# Altium schematic symbol library InertialSense.SchLib: 6 symbols
Pins are listed as number, name and electrical type; pins without a type are passive.

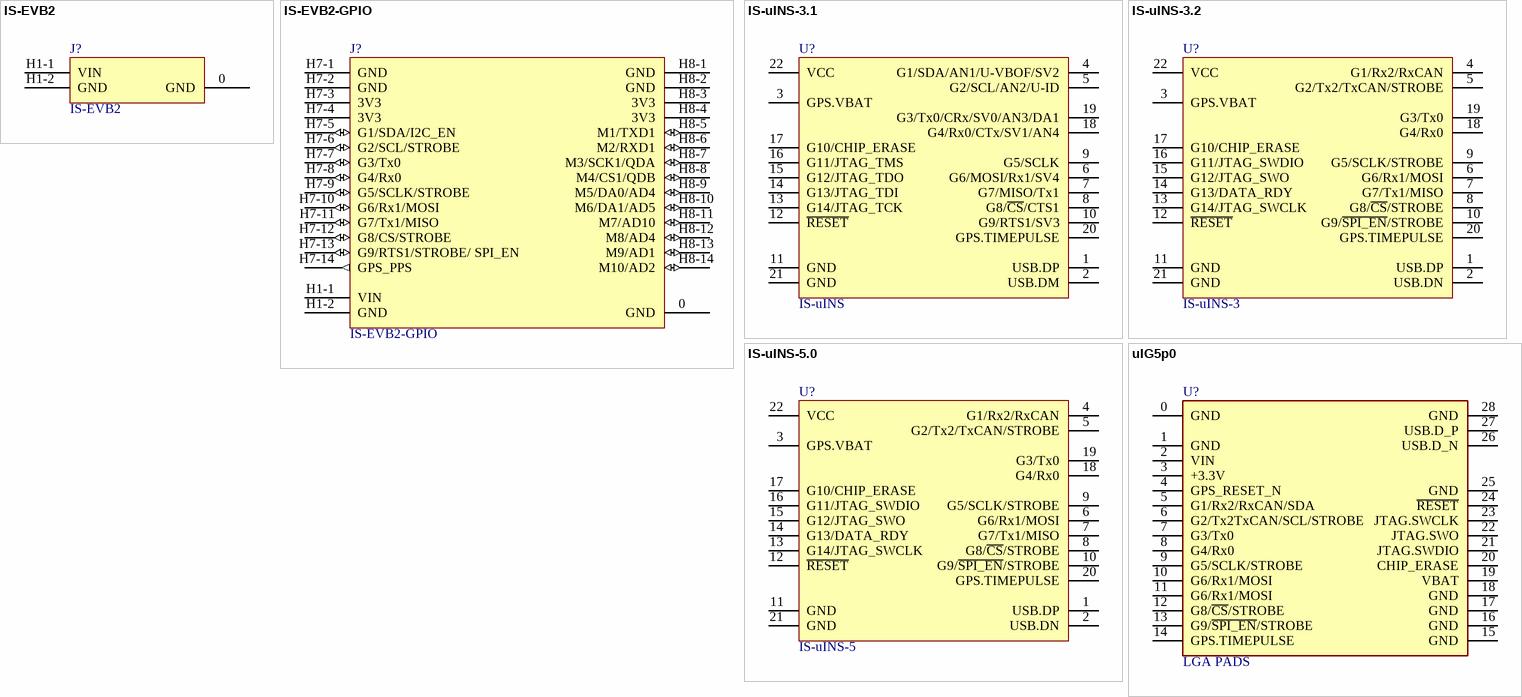
[diagram p0: symbols IS-EVB2 to uIG5p0]

## IS-EVB2
designator J?
Inertial Sense EVB 2.x
footprint EVB-2_1 (EVB 2 Footprint)
pins: 0 GND (power), H1-1 VIN (power), H1-2 GND (power)

## IS-EVB2-GPIO
designator J?
Inertial Sense EVB 2.x with GPIO connections
footprint EVB-2_1-GPIO (EVB 2.0 Footprint with GPIO headers)
pins: 0 GND (power), H1-1 VIN (power), H1-2 GND (power), H7-1 GND (power), H7-2 GND (power), H7-3 3V3 (power), H7-4 3V3 (power), H7-5 G1/SDA/I2C_EN (io), H7-6 G2/SCL/STROBE (io), H7-7 G3/Tx0 (io), H7-8 G4/Rx0 (io), H7-9 G5/SCLK/STROBE (io), H7-10 G6/Rx1/MOSI (io), H7-11 G7/Tx1/MISO (io), H7-12 G8/CS/STROBE (io), H7-13 G9/RTS1/STROBE/ SPI_EN (io), H7-14 GPS_PPS (out), H8-1 GND (power), H8-2 GND (power), H8-3 3V3 (power), H8-4 3V3 (power), H8-5 M1/TXD1 (io), H8-6 M2/RXD1 (io), H8-7 M3/SCK1/QDA (io), H8-8 M4/CS1/QDB (io), H8-9 M5/DA0/AD4 (io), H8-10 M6/DA1/AD5 (io), H8-11 M7/AD10 (io), H8-12 M8/AD4 (io), H8-13 M9/AD1 (io), H8-14 M10/AD2 (io)

## IS-uINS-3.1
designator U?, comment Manufacturer Part Number: IS-uINS  (hidden comment: uINS)
Inertial Sense uINS; Manufacturer: Inertial Sense
footprint IS-uINS-3.2_no_paste (Inerial Sense uINS r3.2, 22pins 1.27mm pitch)
pins: 1 USB.DP, 2 USB.DM, 3 GPS.VBAT, 4 G1/SDA/AN1/U-VBOF/SV2, 5 G2/SCL/AN2/U-ID, 6 G6/MOSI/Rx1/SV4, 7 G7/MISO/Tx1, 8 G8/~{CS}/CTS1, 9 G5/SCLK, 10 G9/RTS1/SV3, 11 GND (power), 12 ~{RESET}, 13 G14/JTAG_TCK, 14 G13/JTAG_TDI, 15 G12/JTAG_TDO, 16 G11/JTAG_TMS, 17 G10/CHIP_ERASE, 18 G4/Rx0/CTx/SV1/AN4, 19 G3/Tx0/CRx/SV0/AN3/DA1, 20 GPS.TIMEPULSE, 21 GND (power), 22 VCC (power)

## IS-uINS-3.2
designator U?, comment Manufacturer Part Number: IS-uINS-3  (hidden comment: uINS)
Inertial Sense uINS; Manufacturer: Inertial Sense; Supplier 1: Inertial Sense; Supplier Part Number 1: IS-uINS-3
footprint IS-uINS-3.2_no_paste (Inerial Sense uINS r3.2, 22pins 1.27mm pitch)
pins: 1 USB.DP, 2 USB.DN, 3 GPS.VBAT, 4 G1/Rx2/RxCAN, 5 G2/Tx2/TxCAN/STROBE, 6 G6/Rx1/MOSI, 7 G7/Tx1/MISO, 8 G8/~{CS}/STROBE, 9 G5/SCLK/STROBE, 10 G9/~{SPI_EN}/STROBE, 11 GND (power), 12 ~{RESET}, 13 G14/JTAG_SWCLK, 14 G13/DATA_RDY, 15 G12/JTAG_SWO, 16 G11/JTAG_SWDIO, 17 G10/CHIP_ERASE, 18 G4/Rx0, 19 G3/Tx0, 20 GPS.TIMEPULSE, 21 GND (power), 22 VCC (power)

## IS-uINS-5.0
designator U?, comment Manufacturer Part Number: IS-uINS-5  (hidden comment: uINS)
Inertial Sense uINS; Manufacturer: Inertial Sense; Supplier 1: Inertial Sense; Supplier Part Number 1: IS-uINS-5
footprint IS-uINS-5.0 (Inerial Sense uINS r5.0, 22pins 1.27mm pitch)
pins: 1 USB.DP, 2 USB.DN, 3 GPS.VBAT, 4 G1/Rx2/RxCAN, 5 G2/Tx2/TxCAN/STROBE, 6 G6/Rx1/MOSI, 7 G7/Tx1/MISO, 8 G8/~{CS}/STROBE, 9 G5/SCLK/STROBE, 10 G9/~{SPI_EN}/STROBE, 11 GND (power), 12 ~{RESET}, 13 G14/JTAG_SWCLK, 14 G13/DATA_RDY, 15 G12/JTAG_SWO, 16 G11/JTAG_SWDIO, 17 G10/CHIP_ERASE, 18 G4/Rx0, 19 G3/Tx0, 20 GPS.TIMEPULSE, 21 GND (power), 22 VCC (power)

## uIG5p0
designator U?, comment LGA PADS
Inertial Sense uIG5 GNSS INS Module
footprint uIG5p1_LGA
pins: 0 GND, 1 GND, 2 VIN, 3 +3.3V, 4 GPS_RESET_N, 5 G1/Rx2/RxCAN/SDA, 6 G2/Tx2TxCAN/SCL/STROBE, 7 G3/Tx0, 8 G4/Rx0, 9 G5/SCLK/STROBE, 10 G6/Rx1/MOSI, 11 G6/Rx1/MOSI, 12 G8/~{CS}/STROBE, 13 G9/~{SPI_EN}/STROBE, 14 GPS.TIMEPULSE, 15 GND, 16 GND, 17 GND, 18 GND, 19 VBAT, 20 CHIP_ERASE, 21 JTAG.SWDIO, 22 JTAG.SWO, 23 JTAG.SWCLK, 24 ~{RESET}, 25 GND, 26 USB.D_N, 27 USB.D_P, 28 GND